# Altium integrated library Giang's Libs.IntLib: 7 symbols
Pins are listed as number, name and electrical type; pins without a type are passive.

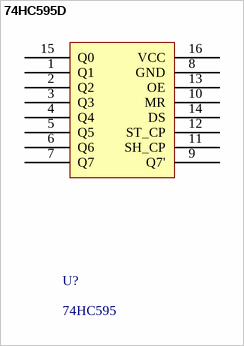
[diagram p0: symbol 74HC595D]

## 74HC595D
designator U?, comment 74HC595
footprint 74HC595D (SOIC, 16-Leads, Body 9.90x3.90mm, Pitch 1.27mm, IPC Medium Density)
pins: 1 Q1, 2 Q2, 3 Q3, 4 Q4, 5 Q5, 6 Q6, 7 Q7, 8 GND, 9 Q7', 10 MR, 11 SH_CP, 12 ST_CP, 13 OE, 14 DS, 15 Q0, 16 VCC


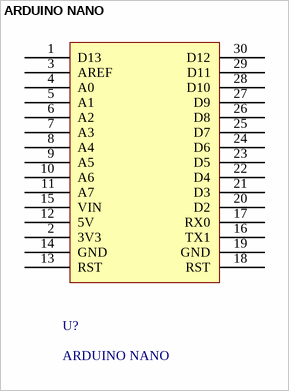
[diagram p1: symbol ARDUINO NANO]

## ARDUINO NANO
designator U?
footprint ARDUINO NANO
pins: 1 D13, 2 3V3, 3 AREF, 4 A0, 5 A1, 6 A2, 7 A3, 8 A4, 9 A5, 10 A6, 11 A7, 12 5V, 13 RST, 14 GND, 15 VIN, 16 TX1, 17 RX0, 18 RST, 19 GND, 20 D2, 21 D3, 22 D4, 23 D5, 24 D6, 25 D7, 26 D8, 27 D9, 28 D10, 29 D11, 30 D12


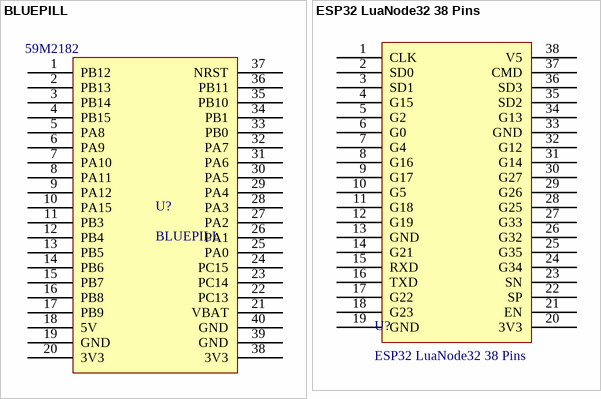
[diagram p2: symbols BLUEPILL to ESP32 LuaNode32 38 Pins]

## BLUEPILL
designator U?  Supplier Part Number 1: 59M2182
Development board STM32F103C8T6; Supplier 1: Newark
footprint BLUEPILL
pins: 1 PB12, 2 PB13, 3 PB14, 4 PB15, 5 PA8, 6 PA9, 7 PA10, 8 PA11, 9 PA12, 10 PA15, 11 PB3, 12 PB4, 13 PB5, 14 PB6, 15 PB7, 16 PB8, 17 PB9, 18 5V, 19 GND, 20 3V3, 21 VBAT, 22 PC13, 23 PC14, 24 PC15, 25 PA0, 26 PA1, 27 PA2, 28 PA3, 29 PA4, 30 PA5, 31 PA6, 32 PA7, 33 PB0, 34 PB1, 35 PB10, 36 PB11, 37 NRST, 38 3V3, 39 GND, 40 GND

## ESP32 LuaNode32 38 Pins
designator U?
ESP32 NodeMCU LuaNode32 38 Pins
footprint ESP32 LuaNode32 38 Pins
pins: 1 CLK, 2 SD0, 3 SD1, 4 G15, 5 G2, 6 G0, 7 G4, 8 G16, 9 G17, 10 G5, 11 G18, 12 G19, 13 GND, 14 G21, 15 RXD, 16 TXD, 17 G22, 18 G23, 19 GND, 20 3V3, 21 EN, 22 SP, 23 SN, 24 G34, 25 G35, 26 G32, 27 G33, 28 G25, 29 G26, 30 G27, 31 G14, 32 G12, 33 GND, 34 G13, 35 SD2, 36 SD3, 37 CMD, 38 V5


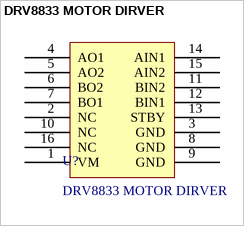
[diagram p3: symbol DRV8833 MOTOR DIRVER]

## DRV8833 MOTOR DIRVER
designator U?
footprint DRV8833 MOTOR DRIVER
pins: 1 VM, 2 NC, 3 GND, 4 AO1, 5 AO2, 6 BO2, 7 BO1, 8 GND, 9 GND, 10 NC, 11 BIN2, 12 BIN1, 13 STBY, 14 AIN1, 15 AIN2, 16 NC


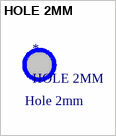
[diagram p4: symbol HOLE 2MM]

## HOLE 2MM
designator *
footprint PCBComponent_1
text: Hole 2mm


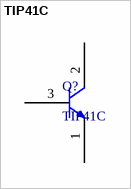
[diagram p5: symbol TIP41C]

## TIP41C
designator Q?
footprint TIP41C (D-PAK, 3-Pads, Body 6.30x6.76mm (max), IPC Medium Density)
pins: 1 E, 2 C, 3 B